# EAGLE library part BMP280 (library Naze32Lib)
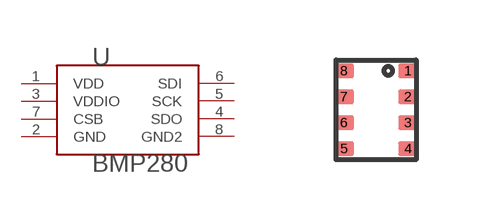
[diagram p5: symbol with the pads of LGA8; footprint LGA8]

Designator prefix U

## BMP280  [LGA8]
1  VDD
2  GND
3  VDDIO
4  SDO
5  SCK
6  SDI
7  CSB
8  GND2

## Footprint LGA8 (pad centres in mm)
smd 0.5 x 0.35: 1 0.8,0.975; 2 0.8,0.325; 3 0.8,-0.325; 4 0.8,-0.975; 5 -0.8,-0.975; 6 -0.8,-0.325; 7 -0.8,0.325; 8 -0.8,0.975